# Altium footprint library sot_23_8_p65_290x280x100.PcbLib: 1 footprints
Each footprint in its own frame and in the unit in brackets; x right, y up, seen from the top. Pads: shape width x height; smd on the part's side, far side on the other; paste and mask are expansions set on the pad; w line width, h text height; cw(c..) or ccw(c..) is an arc to the next point about the centre after c.
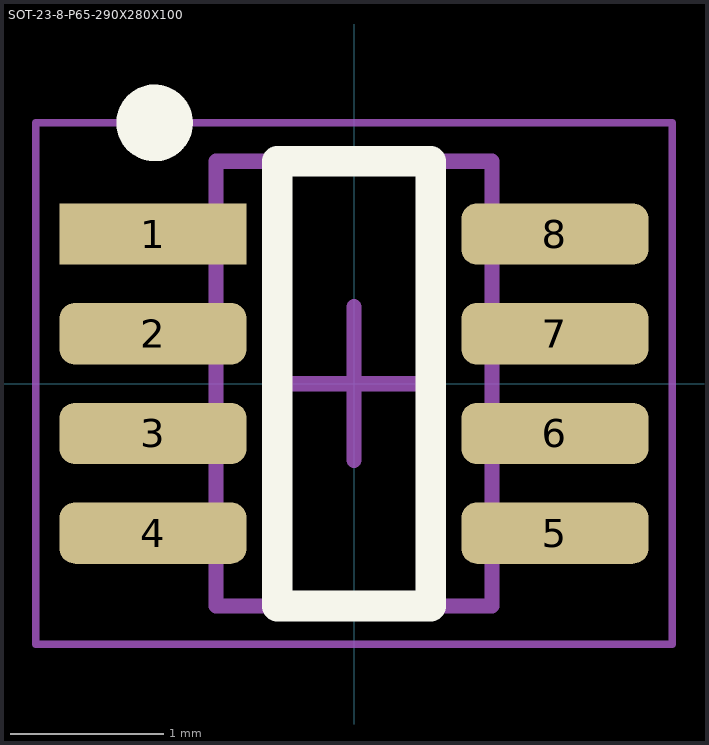
[diagram p0: the footprint, top view; thin cyan lines are the x and y axes]

## SOT-23-8-P65-290X280X100 [mm] "SOT, 8-Leads, Body 2,90x2,80mm, Pitch 0,65mm, IPC Medium Density"
height 1
pads (8):
  rect 1.22x0.4 smd: 1(-1.31,0.975)
  rrect50% 1.22x0.4 smd: 2(-1.31,0.325) 3(-1.31,-0.325) 4(-1.31,-0.975) 5(1.31,-0.975) 6(1.31,-0.325) 7(1.31,0.325) 8(1.31,0.975)
Top Overlay:
  circle w0.25: c-1.3,1.7 r0.125
  lines w0.2: -0.5,-1.45 -0.5,1.45 0.5,1.45 0.5,-1.45 -0.5,-1.45
Top Comment:
  text ".Comment" at 1,2.5 h1.2
Top Designator:
  text ".Designator" at -0.5,2.5 h1.2
Top Component Outline:
  lines w0.1: -0.9,-1.45 -0.9,1.45 0.9,1.45 0.9,-1.45 -0.9,-1.45
Top Courtyard (Mech15):
  lines w0.05: -2.075,-1.7 -2.075,1.7 2.075,1.7 2.075,-1.7 -2.075,-1.7
  lines w0.1: -0.5,0 0.5,0 ; 0,-0.5 0,0.5
3D body "User Library-TSOT-23-8.STEP": height 1, standoff 0, extent -1.4,-1.45 1.4,1.45